# Altium schematic symbol library MCP6V14-ES-T.Schlib: 1 symbol
Pins are listed as number, name and electrical type; pins without a type are passive.

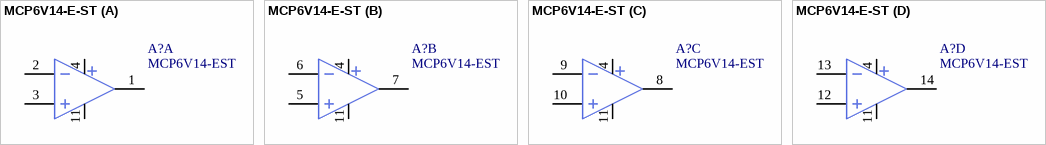
[diagram p0: symbol MCP6V14-E-ST]

## MCP6V14-E-ST
designator A?, comment MCP6V14-EST
part A pins: 1 OUTA, 2 INA-, 3 INA+, 4 VDD (power), 11 VSS (power)
part B pins: 4 VDD (power), 5 INB+, 6 INB-, 7 OUTB, 11 VSS (power)
part C pins: 4 VDD (power), 8 OUTC, 9 INC-, 10 INC+, 11 VSS (power)
part D pins: 4 VDD (power), 11 VSS (power), 12 IND+, 13 IND-, 14 OUTD